# EAGLE library part SN74HCS596PWR (library ICs)
Shift Shift Register 1 Element 8 Bit 16-TSSOP
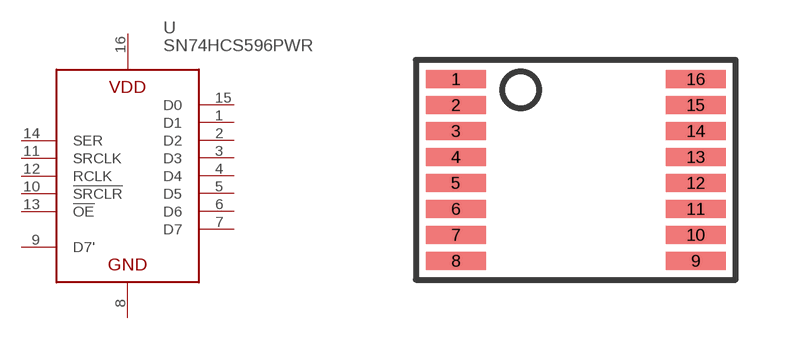
[diagram p305: symbol with the pads of TSSOP16; footprint TSSOP16]

Designator prefix U

## SN74HCS596PWR (DIGIKEY: 296-SN74HCS596PWRCT-ND; HEIGHT: 2; PRICE_PER: 0.37; VALUE: SN74HCS596)  [TSSOP16]
1  D1
2  D2
3  D3
4  D4
5  D5
6  D6
7  D7
8  GND
9  D7'
10  !SRCLR
11  SRCLK
12  RCLK
13  !OE
14  SER
15  D0
16  VDD

## Footprint TSSOP16 (pad centres in mm)
smd 1.5 x 0.45: 1 -3,2.275; 2 -3,1.625; 3 -3,0.975; 4 -3,0.325; 5 -3,-0.325; 6 -3,-0.975; 7 -3,-1.625; 8 -3,-2.275; 9 3,-2.275; 10 3,-1.625; 11 3,-0.975; 12 3,-0.325; 13 3,0.325; 14 3,0.975; 15 3,1.625; 16 3,2.275